# EAGLE library part W65C816S6TQG-14 (library SamacSys_Parts)
Microprocessors - MPU 16-bit MPU 44 Pin QFP package Source: Datasheet <https://componentsearchengine.com/Datasheets/1/W65C816S6TQG-14.pdf>
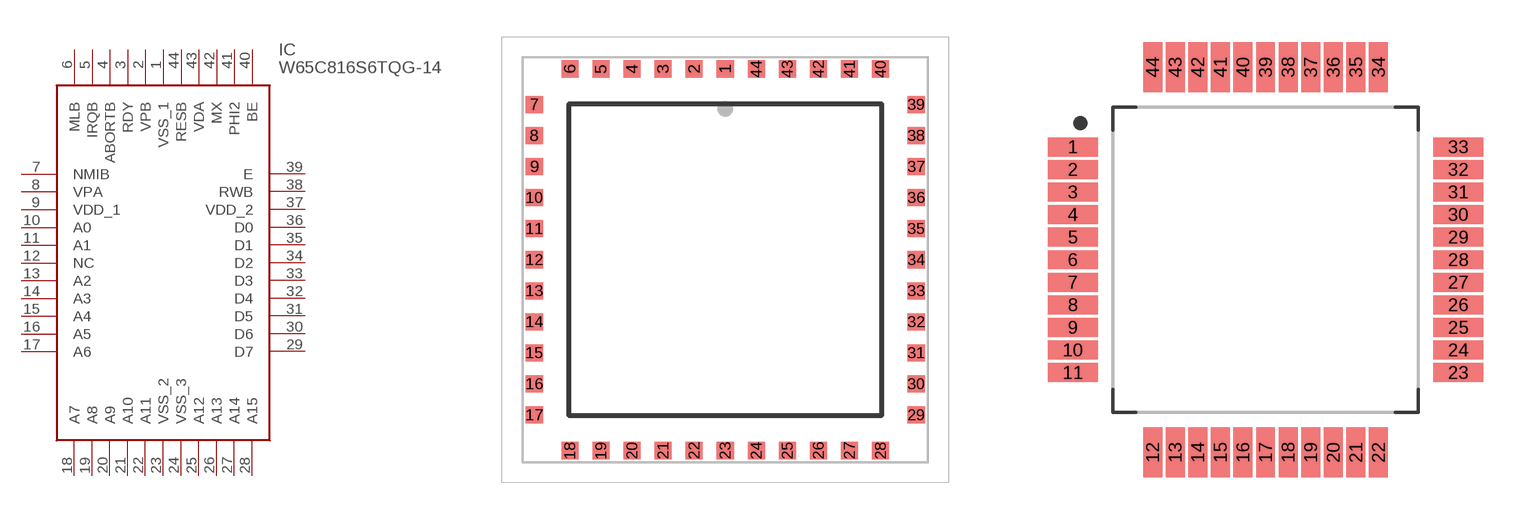
[diagram p185: symbol with the pads of PLCC127P1752X1752X457-44N; footprints PLCC127P1752X1752X457-44N, QFP80P1460X1460X120-44N]

Designator prefix IC

## W65C816S6TQG-14 (DESCRIPTION: Microprocessors - MPU 16-bit MPU 44 Pin QFP package; HEIGHT: 4.57mm; MANUFACTURER_NAME: Western Design Center (WDC); MANUFACTURER_PART_NUMBER: W65C816S6TQG-14; MOUSER_PART_NUMBER: 955-W65C816S6TQG-14; MOUSER_PRICE-STOCK: https://www.mouser.co.uk/ProductDetail/Western-Design-Center-WDC/W65C816S6TQG-14?qs=9lcNTSmDlCpDFNJ8GRf7eQ%3D%3D)  [PLCC127P1752X1752X457-44N]
1  VSS_1  pwr
2  VPB  out
3  RDY
4  ABORTB  in
5  IRQB  in
6  MLB  out
7  NMIB  in
8  VPA  out
9  VDD_1  pwr
10  A0  out
11  A1  out
12  NC  nc
13  A2  out
14  A3  out
15  A4  out
16  A5  out
17  A6  out
18  A7  out
19  A8  out
20  A9  out
21  A10  out
22  A11  out
23  VSS_2  pwr
24  VSS_3  pwr
25  A12  out
26  A13  out
27  A14  out
28  A15  out
29  D7
30  D6
31  D5
32  D4
33  D3
34  D2
35  D1
36  D0
37  VDD_2  pwr
38  RWB  out
39  E  in
40  BE  out
41  PHI2  in
42  MX  out
43  VDA  out
44  RESB  in

## W65C816S6TQG-14QFP44  [QFP80P1460X1460X120-44N]
1  NMIB  in
2  VPA  out
3  VDD_1  pwr
4  A0  out
5  A1  out
6  NC  nc
7  A2  out
8  A3  out
9  A4  out
10  A5  out
11  A6  out
12  A7  out
13  A8  out
14  A9  out
15  A10  out
16  A11  out
17  VSS_1  pwr
18  VSS_2  pwr
19  A12  out
20  A13  out
21  A14  out
22  A15  out
23  D7
24  D6
25  D5
26  D4
27  D3
28  D2
29  D1
30  D0
31  VDD_2  pwr
32  RWB  out
33  E  in
34  BE  out
35  PHI2  in
36  MX  out
37  VDA  out
38  RESB  in
39  VSS_3  pwr
40  VPB  out
41  RDY
42  ABORTB  in
43  IRQB  in
44  MLB  out

## Footprint PLCC127P1752X1752X457-44N (pad centres in mm)
44 Pin PLCC
smd 0.7 x 0.7: 1 0,7.804; 2 -1.27,7.804; 3 -2.54,7.804; 4 -3.81,7.804; 5 -5.08,7.804; 6 -6.35,7.804; 7 -7.804,6.35; 8 -7.804,5.08; 9 -7.804,3.81; 10 -7.804,2.54; 11 -7.804,1.27; 12 -7.804,0; 13 -7.804,-1.27; 14 -7.804,-2.54; 15 -7.804,-3.81; 16 -7.804,-5.08; 17 -7.804,-6.35; 18 -6.35,-7.804; 19 -5.08,-7.804; 20 -3.81,-7.804; 21 -2.54,-7.804; 22 -1.27,-7.804; 23 0,-7.804; 24 1.27,-7.804; 25 2.54,-7.804; 26 3.81,-7.804; 27 5.08,-7.804; 28 6.35,-7.804; 29 7.804,-6.35; 30 7.804,-5.08; 31 7.804,-3.81; 32 7.804,-2.54; 33 7.804,-1.27; 34 7.804,0; 35 7.804,1.27; 36 7.804,2.54; 37 7.804,3.81; 38 7.804,5.08; 39 7.804,6.35; 40 6.35,7.804; 41 5.08,7.804; 42 3.81,7.804; 43 2.54,7.804; 44 1.27,7.804

## Footprint QFP80P1460X1460X120-44N (pad centres in mm)
44-QFP, 0.80 mm pitch, 14.60 mm span, 10.80 X 10.80 X 1.20 mm body 44-pin QFP package with 0.80 mm pitch, 14.60 mm lead span1 X 14.60 mm lead span2 with body size 10.80 X 10.80 X 1.20 mm
smd 1.758 x 0.672: 1 -6.827,4; 2 -6.827,3.2; 3 -6.827,2.4; 4 -6.827,1.6; 5 -6.827,0.8; 6 -6.827,0; 7 -6.827,-0.8; 8 -6.827,-1.6; 9 -6.827,-2.4; 10 -6.827,-3.2; 11 -6.827,-4; 23 6.827,-4; 24 6.827,-3.2; 25 6.827,-2.4; 26 6.827,-1.6; 27 6.827,-0.8; 28 6.827,0; 29 6.827,0.8; 30 6.827,1.6; 31 6.827,2.4; 32 6.827,3.2; 33 6.827,4
smd 0.672 x 1.758: 12 -4,-6.827; 13 -3.2,-6.827; 14 -2.4,-6.827; 15 -1.6,-6.827; 16 -0.8,-6.827; 17 0,-6.827; 18 0.8,-6.827; 19 1.6,-6.827; 20 2.4,-6.827; 21 3.2,-6.827; 22 4,-6.827; 34 4,6.827; 35 3.2,6.827; 36 2.4,6.827; 37 1.6,6.827; 38 0.8,6.827; 39 0,6.827; 40 -0.8,6.827; 41 -1.6,6.827; 42 -2.4,6.827; 43 -3.2,6.827; 44 -4,6.827